# Altium footprint library diode.PcbLib: 4 footprints
Each footprint in its own frame and in the unit in brackets; x right, y up, seen from the top. Pads: shape width x height; smd on the part's side, far side on the other; paste and mask are expansions set on the pad; w line width, h text height; cw(c..) or ccw(c..) is an arc to the next point about the centre after c.
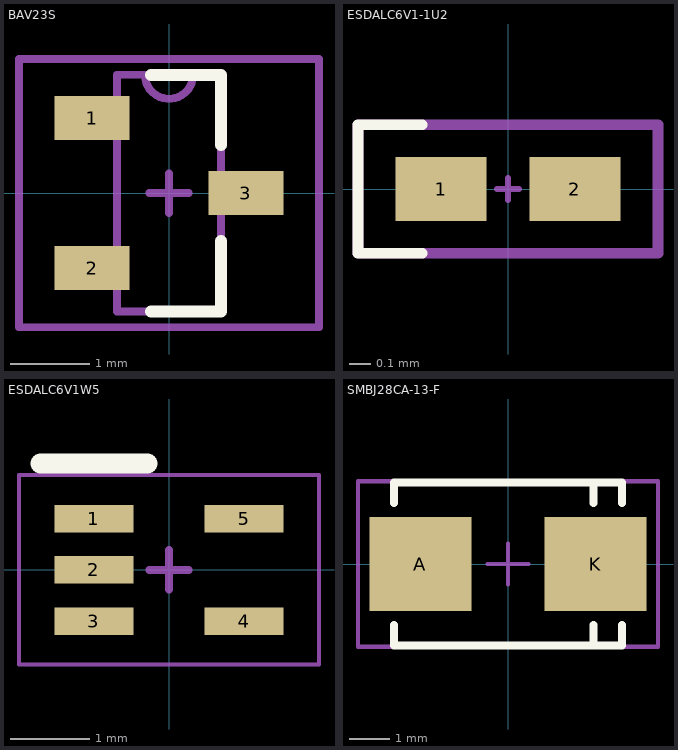
[diagram p0: the footprints below, top view; thin cyan lines are the x and y axes]

## BAV23S [mm]
pads (3):
  rect 0.95x0.56 smd: 1(-0.975,0.95) 2(-0.975,-0.95) 3(0.975,0)
Top Overlay:
  lines w0.152: -0.229,-1.499 0.66,-1.499 0.66,-0.61 ; -0.229,1.499 0.305,1.499 0.66,1.499 0.66,0.61
Top Courtyard:
  lines w0.1: -0.305,1.499 ccw(c0,1.499) 0.305,1.499 ; -0.25,0 0.25,0 ; 0,-0.25 0,0.25 ; -1.9,-1.7 -1.9,1.7 1.9,1.7 1.9,-1.7 -1.9,-1.7 ; -0.66,-1.499 -0.66,1.499 0.66,1.499 0.66,-1.499 -0.66,-1.499
  text "'.Designator'" at 0.04,0.107 h0.2
3D body "BAV23S.stp": height 1.2, standoff 0, extent -1.2,-1.46 1.2,1.46

## ESDALC6V1-1U2 [mm]
pads (2):
  rect 0.425x0.3 smd mask+0.05: 1(-0.312,0) 2(0.312,0)
Top Overlay:
  lines w0.05: -0.4,-0.3 -0.7,-0.3 -0.7,0.3 -0.4,0.3
Top Courtyard:
  lines w0.03: -0.05,0 0,0 ; 0,-0.05 0,0 ; 0,0.05 0,0 ; 0.05,0 0,0
  lines w0.05: -0.7,-0.3 0.7,-0.3 0.7,0.3 -0.7,0.3 -0.7,-0.3
  text "'.Designator'" at 0.02,0.053 h0.1
3D body "ESDALC6V1-1U2.stp": height 0.34, standoff 0, extent -0.35,-0.175 0.3,0.175

## ESDALC6V1W5 [mm]
pads (5):
  rect 1x0.35 smd: 1(-0.95,0.65) 2(-0.95,0) 3(-0.95,-0.65) 4(0.95,-0.65) 5(0.95,0.65)
Top Overlay:
  lines w0.254: -1.625,1.35 -0.275,1.35
Top Courtyard:
  lines w0.05: -1.9,-1.2 1.9,-1.2 1.9,1.2 -1.9,1.2 -1.9,-1.2
  lines w0.1: -0.25,0 0.25,0 ; 0,-0.25 0,0.25
  text "'.Designator'" at -1.66,0.607 h0.2
3D body "SOT65P210X110-5N.stp": height 1.1, standoff 0, extent -1.075,-1 1.025,1

## SMBJ28CA-13-F [mm]
pads (2):
  rect 2.5x2.3 smd: A(-2.15,0) K(2.15,0)
Top Overlay:
  lines w0.2: -2.8,-1.5 -2.8,-2 2.8,-2 2.8,-1.5 ; -2.8,1.5 -2.8,2 2.8,2 2.8,1.5 ; 2.1,-2 2.1,-1.5 ; 2.1,1.5 2.1,2
Top Courtyard:
  lines w0.1: -0.5,0 0.5,0 ; 0,-0.5 0,0.5 ; -3.683,-2.032 -3.683,2.032 3.683,2.032 3.683,-2.032 -3.683,-2.032
  text "'.Designator'" at -2.525,-1.675 h1
3D body "DO-214AA.stp": height 2.65, standoff 0, extent -2.8,-1.975 2.8,1.975